# EAGLE library part AY-3-8910 (library 8Bit_Parts)
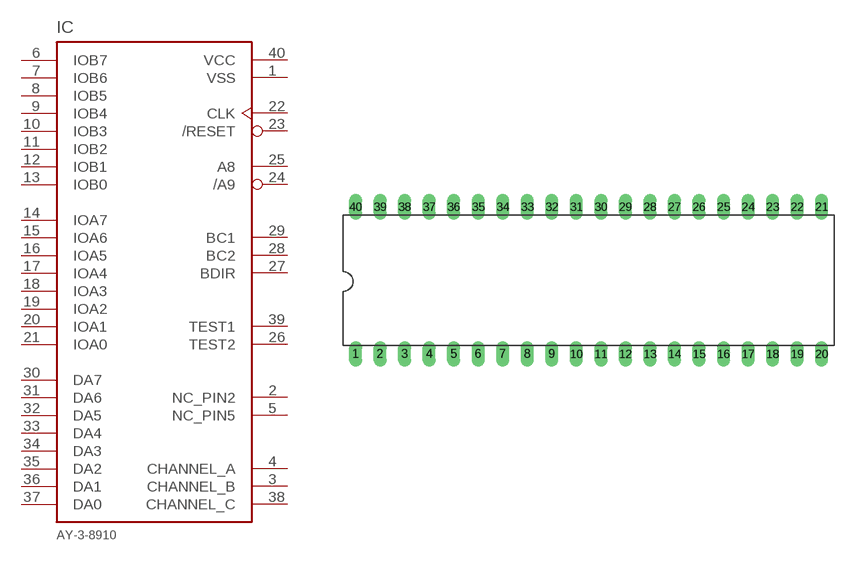
[diagram p7: symbol with the pads of DIL40; footprint DIL40]

Designator prefix IC

## AY-3-8910  [DIL40]
1  VSS  pwr
2  NC_PIN2  nc
3  CHANNEL_B  out
4  CHANNEL_A  out
5  NC_PIN5
6  IOB7
7  IOB6
8  IOB5
9  IOB4
10  IOB3
11  IOB2
12  IOB1
13  IOB0
14  IOA7
15  IOA6
16  IOA5
17  IOA4
18  IOA3
19  IOA2
20  IOA1
21  IOA0
22  CLK  in
23  /RESET  in
24  /A9
25  A8
26  TEST2  nc
27  BDIR  in
28  BC2  in
29  BC1  in
30  DA7
31  DA6
32  DA5
33  DA4
34  DA3
35  DA2
36  DA1
37  DA0
38  CHANNEL_C  out
39  TEST1  nc
40  VCC  pwr

## Footprint DIL40 (pad centres in mm)
Dual In Line Package
drill 0.813 long: 1 -24.13,-7.62; 2 -21.59,-7.62; 3 -19.05,-7.62; 4 -16.51,-7.62; 5 -13.97,-7.62; 6 -11.43,-7.62; 7 -8.89,-7.62; 8 -6.35,-7.62; 9 -3.81,-7.62; 10 -1.27,-7.62; 11 1.27,-7.62; 12 3.81,-7.62; 13 6.35,-7.62; 14 8.89,-7.62; 15 11.43,-7.62; 16 13.97,-7.62; 17 16.51,-7.62; 18 19.05,-7.62; 19 21.59,-7.62; 20 24.13,-7.62; 21 24.13,7.62; 22 21.59,7.62; 23 19.05,7.62; 24 16.51,7.62; 25 13.97,7.62; 26 11.43,7.62; 27 8.89,7.62; 28 6.35,7.62; 29 3.81,7.62; 30 1.27,7.62; 31 -1.27,7.62; 32 -3.81,7.62; 33 -6.35,7.62; 34 -8.89,7.62; 35 -11.43,7.62; 36 -13.97,7.62; 37 -16.51,7.62; 38 -19.05,7.62; 39 -21.59,7.62; 40 -24.13,7.62